# Altium footprint library QRE1113.PcbLib: 1 footprints
Each footprint in its own frame and in the unit in brackets; x right, y up, seen from the top. Pads: shape width x height; smd on the part's side, far side on the other; paste and mask are expansions set on the pad; w line width, h text height; cw(c..) or ccw(c..) is an arc to the next point about the centre after c.
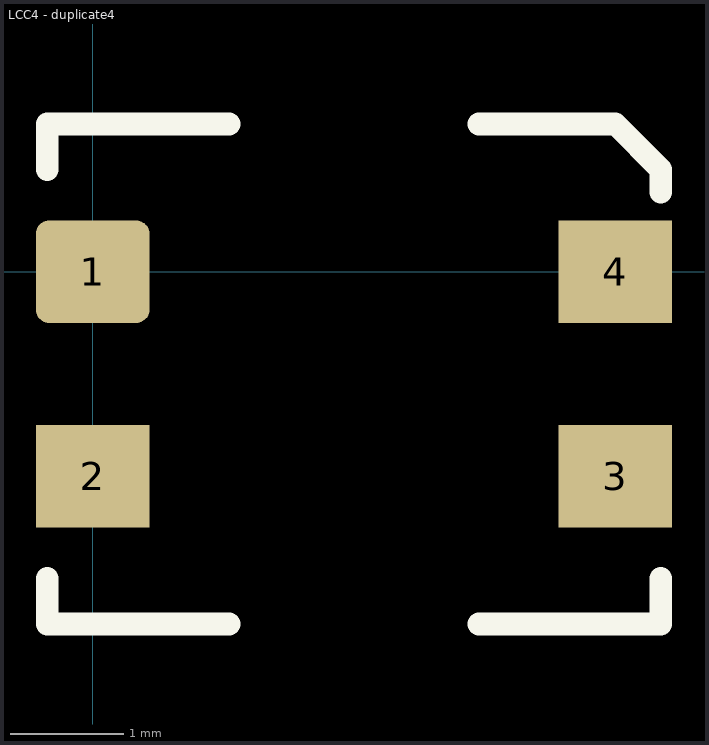
[diagram p0: the footprint, top view; thin cyan lines are the x and y axes]

## LCC4 - duplicate4 [mm]
pads (4):
  rrect25% 1x0.9 smd: 1(0,0)
  rect 1x0.9 smd: 2(0,-1.8) 3(4.6,-1.8) 4(4.6,0)
Top Overlay:
  lines w0.2: -0.4,-2.7 -0.4,-3.1 1.2,-3.1 ; -0.4,0.9 -0.4,1.3 1.2,1.3 ; 3.4,-3.1 5,-3.1 5,-2.7 ; 3.4,1.3 4.6,1.3 5,0.9 5,0.7
3D body: height 1.5, standoff 0, extent 0.6,-2.8 4,1